# EAGLE library part JP4QE (library jumper)
JUMPER
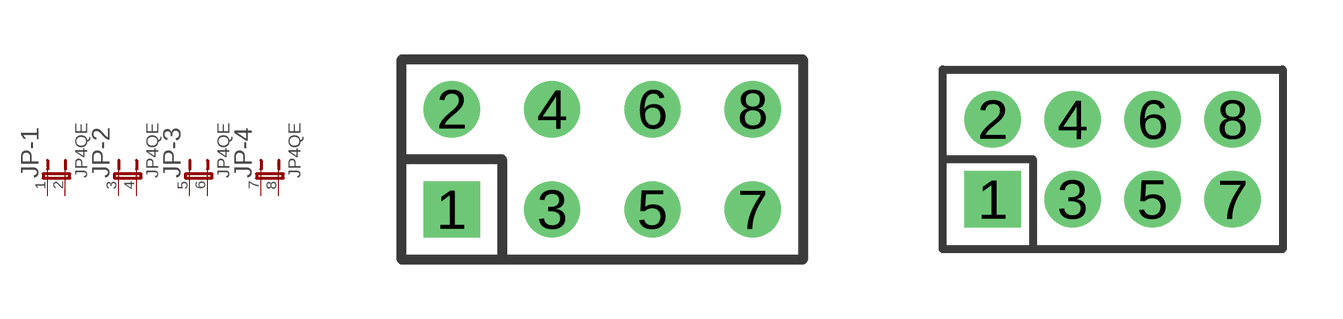
[diagram p1: symbol with the pads of JP4Q; footprints JP4Q, JP4QM]

Designator prefix JP; gates -1=JP2E -2=JP2E -3=JP2E -4=JP2E

## JP4QE  [JP4Q]
1  -1:1  pas
2  -1:2  pas
3  -2:1  pas
4  -2:2  pas
5  -3:1  pas
6  -3:2  pas
7  -4:1  pas
8  -4:2  pas

## JP4QEM  [JP4QM]
Pads as for JP4Q

## Footprint JP4Q (pad centres in mm)
JUMPER - 0.1" Pitch
drill 0.914 square: 1 -3.81,-1.27
drill 0.914: 2 -3.81,1.27; 3 -1.27,-1.27; 4 -1.27,1.27; 5 1.27,-1.27; 6 1.27,1.27; 7 3.81,-1.27; 8 3.81,1.27

## Footprint JP4QM (pad centres in mm)
JUMPER - 2.00mm (.079") Pitch
drill 0.914 square: 1 -3,-1
drill 0.914: 2 -3,1; 3 -1,-1; 4 -1,1; 5 1,-1; 6 1,1; 7 3,-1; 8 3,1